# Altium footprint library BrakeLight_footprints.PcbLib: 7 footprints
Each footprint in its own frame and in the unit in brackets; x right, y up, seen from the top. Pads: shape width x height; smd on the part's side, far side on the other; paste and mask are expansions set on the pad; w line width, h text height; cw(c..) or ccw(c..) is an arc to the next point about the centre after c.
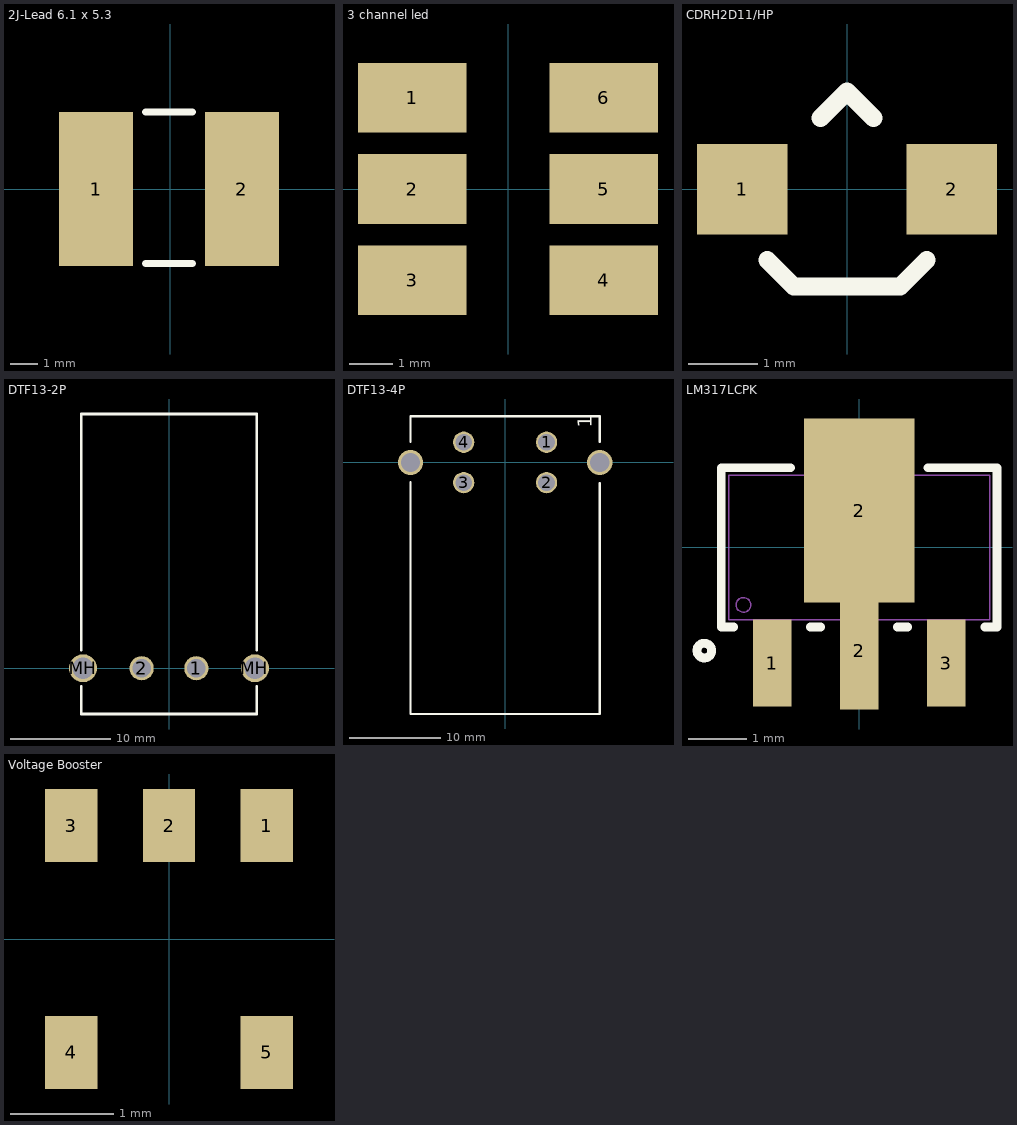
[diagram p0: the footprints below, top view; thin cyan lines are the x and y axes]

## 2J-Lead 6.1 x 5.3 [mm]
pads (2):
  rect 2.7x5.6 smd: 1(-2.7,0) 2(2.6,0)
Top Overlay:
  lines w0.254: -0.9,-2.7 0.8,-2.7 ; -0.9,2.8 0.8,2.8
3D body: height 5, standoff 0.06, extent -3.4,-2.8 3.3,2.8

## 3 channel led [mm]
pads (6):
  rect 2.5x1.6 smd: 1(-2.2,2.1) 2(-2.2,0) 3(-2.2,-2.1) 4(2.2,-2.1) 5(2.2,0) 6(2.2,2.1)
3D body: height 2.5, standoff 0, extent -2.1,-2.8 2.2,2.8

## CDRH2D11/HP [mm]
pads (2):
  rect 1.3x1.3 smd: 1(-1.5,0) 2(1.5,0)
Top Overlay:
  lines w0.254: -1.143,-1.016 -0.762,-1.397 0.762,-1.397 1.143,-1.016 ; -0.381,1.019 0,1.4 0.381,1.019

## DTF13-2P [mil]
pads (4):
  round 95 hole 72: 1(107.5,0) 2(-107.5,0)
  round 110 hole 84.02: MH(-338,0) MH(338,0)
Top Overlay:
  lines w10: -345,-70 -345,-180 345,-180 345,-70 ; -345,70 -345,1000 345,1000 345,70
  text "." at 395,-95 h60
3D body "c-dtf13-2p-99-3d.stp": height 770, standoff -110, extent -460,-180.26 465.98,1010.26

## DTF13-4P [mil]
pads (4):
  round 92 hole 72: 1(179.5,87.5) 2(179.5,-87.5) 3(-179.5,-87.5) 4(-179.5,87.5)
via 410,0 diameter 110 hole 84
via -410,0 diameter 110 hole 84
Top Overlay:
  lines w10: -410,-85 -410,-1090 410,-1090 410,-90 ; -410,90 -410,200 410,200 410,90
  text "1" at 375,150 h60
3D body "c-dtf13-4p-99-3d.stp": height 933.5, standoff -112.5, extent -540,-1097.5 530,220

## LM317LCPK [mil]
pads (4):
  rect 26x59 smd: 1(-59.06,-78.5) 3(59.06,-78.5)
  rect 26x80 smd: 2(0,-70)
  rect 75x125 smd: 2(0,25)
Top Overlay:
  circle w6: c-105,-70 r5
  lines w6: -85.16,-54 -93.5,-54 -93.5,54 -46.6,54 ; -32.96,-54 -26.1,-54 ; 26.1,-54 32.96,-54 ; 46.6,54 93.5,54 93.5,-54 85.16,-54
Mechanical 1:
  circle w1: c-78.5,-39 r5
  lines w1: -88.5,-49 -88.5,49 88.5,49 88.5,-49 -88.5,-49 ; -70.06,-96 -48.06,-96 -48.06,-49 -70.06,-49 -70.06,-96 ; -11,-96 11,-96 11,-49 -11,-49 -11,-96 ; 48.06,-96 70.06,-96 70.06,-49 48.06,-49 48.06,-96
3D body "PK3-L.step": height 65.12, standoff 0, extent -87,-93.48 90,73.48

## Voltage Booster [mil]
pads (5):
  rect 20x28 smd: 1(37.5,43.5) 2(0,43.5) 3(-37.5,43.5) 4(-37.5,-43.5) 5(37.5,-43.5)